# EAGLE library part NANOPI-DUO (library FriendlyARM)
http://wiki.friendlyarm.com/wiki/index.php/NanoPi_Duo
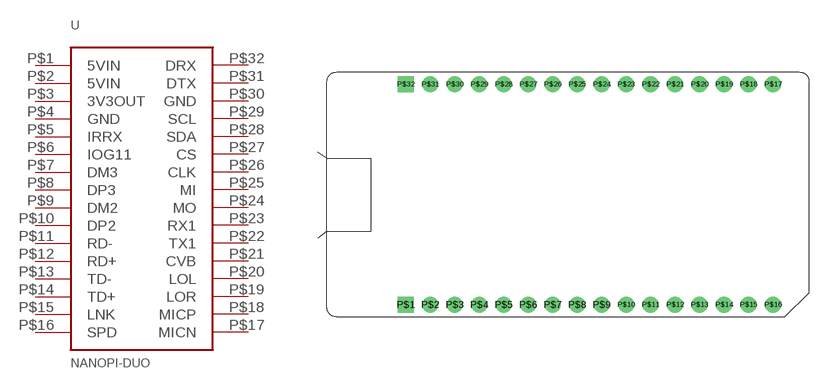
[diagram p0: symbol with the pads of NANOPI-DUO; footprint NANOPI-DUO]

Designator prefix -

## NANOPI-DUO  [NANOPI-DUO]
P$1  5VIN  pwr
P$2  5VIN  pwr
P$3  3V3OUT  pwr
P$4  GND  pwr
P$5  IRRX
P$6  IOG11
P$7  DM3
P$8  DP3
P$9  DM2
P$10  DP2
P$11  RD-
P$12  RD+
P$13  TD-
P$14  TD+
P$15  LNK  out
P$16  SPD  out
P$17  MICN
P$18  MICP
P$19  LOR
P$20  LOL
P$21  CVB
P$22  TX1
P$23  RX1
P$24  MO
P$25  MI
P$26  CLK
P$27  CS
P$28  SDA
P$29  SCL
P$30  GND  pwr
P$31  DTX
P$32  DRX

## Footprint NANOPI-DUO (pad centres in mm)
drill 0.6 pad 1.676 square: P$1 0,0; P$32 0,22.86
drill 0.6 pad 1.676: P$2 2.54,0; P$3 5.08,0; P$4 7.62,0; P$5 10.16,0; P$6 12.7,0; P$7 15.24,0; P$8 17.78,0; P$9 20.32,0; P$10 22.86,0; P$11 25.4,0; P$12 27.94,0; P$13 30.48,0; P$14 33.02,0; P$15 35.56,0; P$16 38.1,0; P$17 38.1,22.86; P$18 35.56,22.86; P$19 33.02,22.86; P$20 30.48,22.86; P$21 27.94,22.86; P$22 25.4,22.86; P$23 22.86,22.86; P$24 20.32,22.86; P$25 17.78,22.86; P$26 15.24,22.86; P$27 12.7,22.86; P$28 10.16,22.86; P$29 7.62,22.86; P$30 5.08,22.86; P$31 2.54,22.86